# Altium schematic symbol library cui-connectors.SchLib: 2 symbols
Pins are listed as number, name and electrical type; pins without a type are passive.

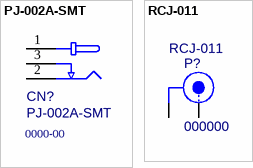
[diagram p0: symbols PJ-002A-SMT to RCJ-011]

## PJ-002A-SMT
designator CN?, comment 0000-00  MF PN: PJ-002A-SMT
Low Voltage Power Supply Connector; MF: CUI INC; PN: 0000-00; ExtraInfo: *
signal-integrity model Connector
footprint PJ-002A-SMT (2.0mm Surface Mount Power Jack)
pins: 1 (power), 2 (power), 3 (power)

## RCJ-011
designator P?, comment 000000  value RCJ-011
Metal Right Angle, RCA Jack; Vendor: CUI; PN: 000000; ExtraInfo: *; Package: PTH
footprint RCJ-011 (RCA Connector)
signal-integrity model Connector
pins: 1, 2